# Altium footprint library PQFP_N20.PcbLib: 1 footprints
Each footprint in its own frame and in the unit in brackets; x right, y up, seen from the top. Pads: shape width x height; smd on the part's side, far side on the other; paste and mask are expansions set on the pad; w line width, h text height; cw(c..) or ccw(c..) is an arc to the next point about the centre after c.
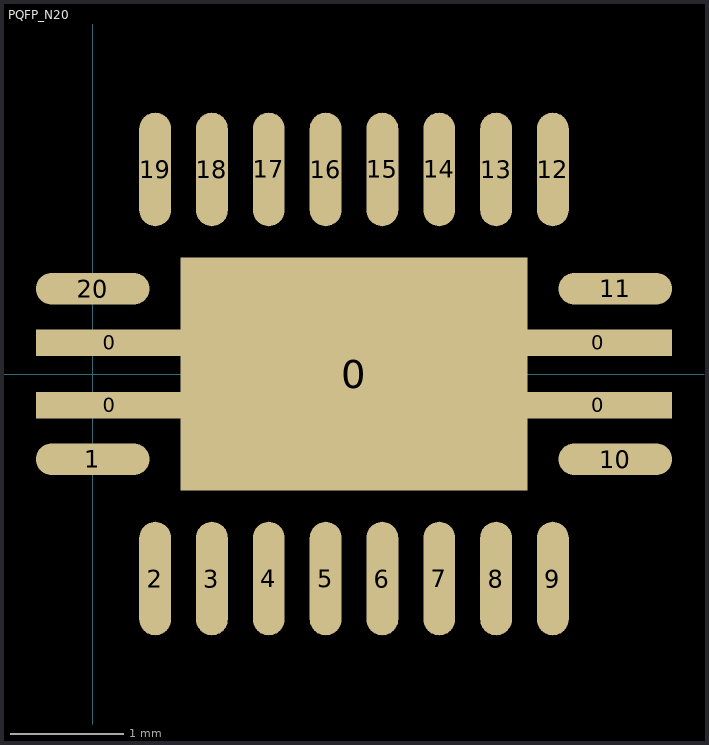
[diagram p0: the footprint, top view; thin cyan lines are the x and y axes]

## PQFP_N20 [mm] "PLastic Quad FlatPack (Texas Instruments)"
height 1
pads (25):
  rect 1.3x0.23 smd mask+0.07: 0(0.15,-0.275) 0(0.15,0.275) 0(4.45,-0.275) 0(4.45,0.275)
  rect 3.05x2.05 smd mask+0.07: 0(2.3,0)
  oval 1x0.28 smd mask+0.07: 1(0,-0.75) 10(4.6,-0.75) 11(4.6,0.75) 20(0,0.75)
  oval 0.28x1 smd mask+0.07: 2(0.55,-1.8) 3(1.05,-1.8) 4(1.55,-1.8) 5(2.05,-1.8) 6(2.55,-1.8) 7(3.05,-1.8) 8(3.55,-1.8) 9(4.05,-1.8) 12(4.05,1.8) 13(3.55,1.8) 14(3.05,1.8) 15(2.55,1.8) 16(2.05,1.8) 17(1.55,1.8) 18(1.05,1.8) 19(0.55,1.8)